# Altium footprint library PCB - CAPACITOR - MLCC - CAP 0402_1005.PcbLib: 1 footprints
Each footprint in its own frame and in the unit in brackets; x right, y up, seen from the top. Pads: shape width x height; smd on the part's side, far side on the other; paste and mask are expansions set on the pad; w line width, h text height; cw(c..) or ccw(c..) is an arc to the next point about the centre after c.
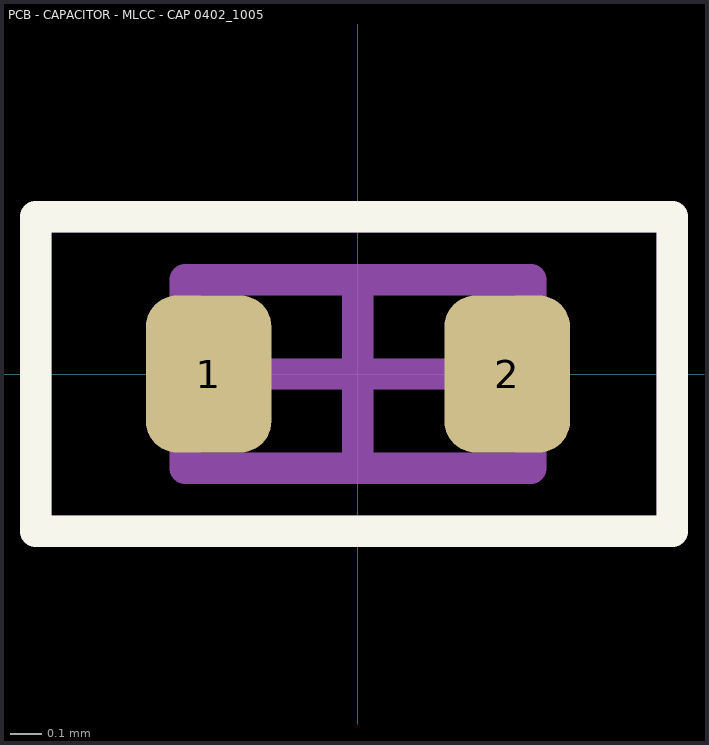
[diagram p0: the footprint, top view; thin cyan lines are the x and y axes]

## PCB - CAPACITOR - MLCC - CAP 0402_1005 [mm]
pads (2):
  rrect50% 0.4x0.5 smd: 1(-0.475,0) 2(0.475,0)
Top Overlay:
  lines w0.1: -1.025,-0.5 1,-0.5 1,0.5 -1.025,0.5 -1.025,-0.5
Mechanical 13:
  lines w0.1: -0.55,-0.3 0.55,-0.3 0.55,0.3 -0.55,0.3 -0.55,-0.3
Mechanical 15:
  lines w0.1: -0.3,0 0.3,0 ; 0,-0.3 0,0.3 ; -1.025,-0.5 -1.025,0.5 1,0.5 1,-0.5 -1.025,-0.5
3D body "CAPC1005X55N EIA 0402.step": height 0.49, standoff -0.01, extent -0.5,-0.275 0.5,0.275